# EAGLE library part ATTINY26 (library ng)
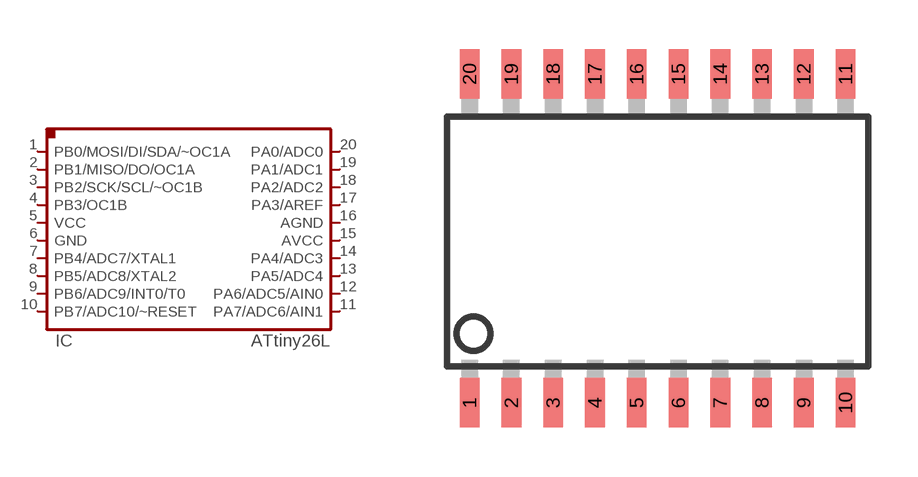
[diagram p1: symbol with the pads of SOIC20; footprint SOIC20]

Designator prefix IC

## ATTINY26SOIC20  [SOIC20]
1  PB0/MOSI/DI/SDA/~OC1A
2  PB1/MISO/DO/OC1A
3  PB2/SCK/SCL/~OC1B
4  PB3/OC1B
5  VCC
6  GND
7  PB4/ADC7/XTAL1
8  PB5/ADC8/XTAL2
9  PB6/ADC9/INT0/T0
10  PB7/ADC10/~RESET
11  PA7/ADC6/AIN1
12  PA6/ADC5/AIN0
13  PA5/ADC4
14  PA4/ADC3
15  AVCC
16  AGND
17  PA3/AREF
18  PA2/ADC2
19  PA1/ADC1
20  PA0/ADC0

## Footprint SOIC20 (pad centres in mm)
Wide Plastic Gull Wing Small Outline Package
smd 0.6 x 1.5: 1 -5.715,-5; 2 -4.445,-5; 3 -3.175,-5; 4 -1.905,-5; 5 -0.635,-5; 6 0.635,-5; 7 1.905,-5; 8 3.175,-5; 9 4.445,-5; 10 5.715,-5; 11 5.715,5; 12 4.445,5; 13 3.175,5; 14 1.905,5; 15 0.635,5; 16 -0.635,5; 17 -1.905,5; 18 -3.175,5; 19 -4.445,5; 20 -5.715,5